# Altium schematic symbol library TS3USB221_RSE_10.SchLib: 2 symbols
Pins are listed as number, name and electrical type; pins without a type are passive.

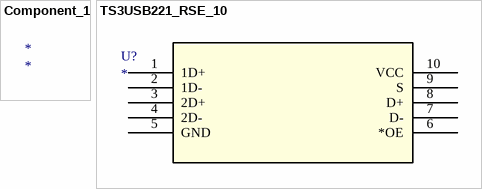
[diagram p0: symbols Component_1 to TS3USB221_RSE_10]

## Component_1
designator *

## TS3USB221_RSE_10
designator U?
Imported; Manufacturer_Part_Number: ts3usb221_rse_10; GENERIC_PART_NUMBER: TS3USB221; Vendor: Texas Instruments; PACKAGE_DESIGNATOR: RSE; PIN_COUNT: 10; FAMILY_NAME: USB SWITCH; INDUSTRY_STD_PKG_TYPE: UQFN; Manufacturer: Texas Instruments; Datasheet_URL: http://www.ti.com/lit/gpn/TS3USB221; Value: Value; Type: Type; RefDes: RefDes
footprint RSE10
pins: 1 1D+, 2 1D-, 3 2D+, 4 2D-, 5 GND (power), 6 *OE, 7 D-, 8 D+, 9 S, 10 VCC (power)